# Altium footprint library PBL4_PCB_Lib.PcbLib: 25 footprints (part 1 of 2)
Each footprint in its own frame and in the unit in brackets; x right, y up, seen from the top. Pads: shape width x height; smd on the part's side, far side on the other; paste and mask are expansions set on the pad; w line width, h text height; cw(c..) or ccw(c..) is an arc to the next point about the centre after c.
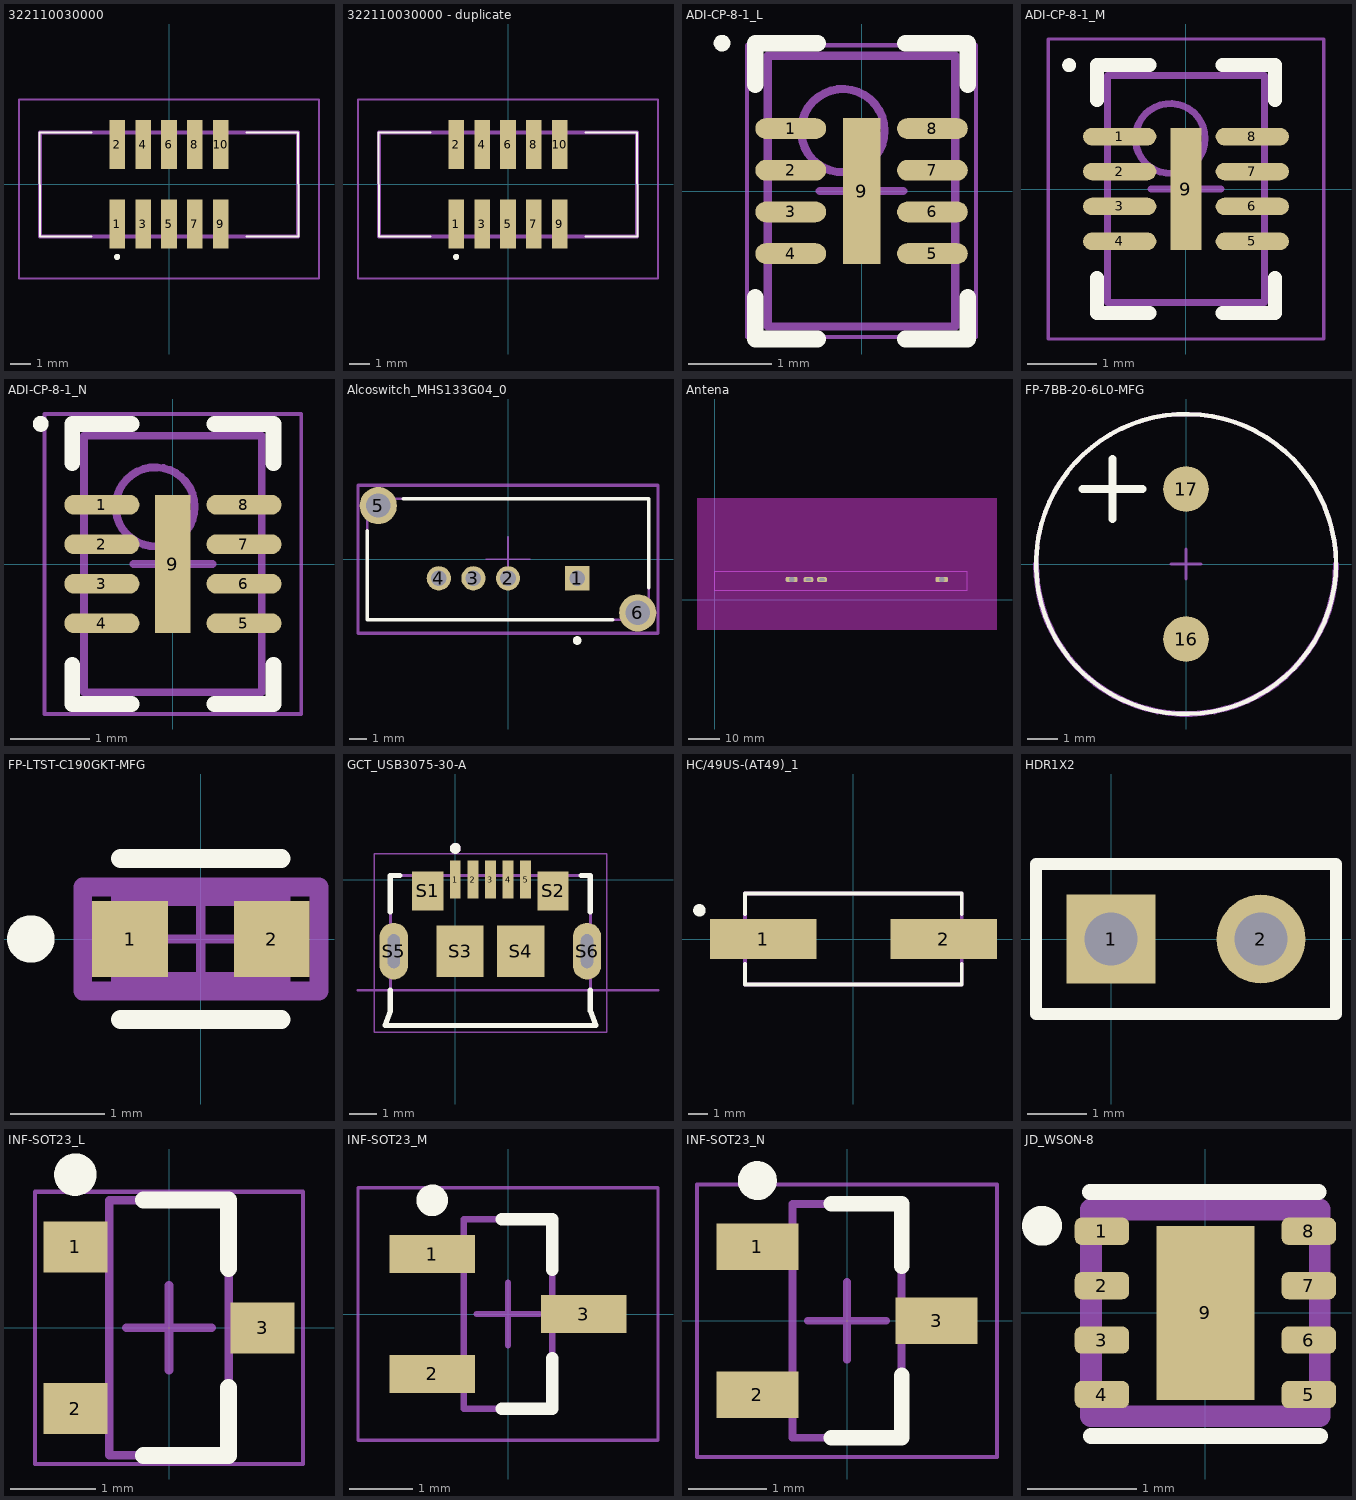
[diagram p0: the footprints below, top view; thin cyan lines are the x and y axes]

## 322110030000 [mm]
pads (10):
  rect 0.76x2.4 smd: 1(-2.54,-1.95) 2(-2.54,1.95) 3(-1.27,-1.95) 4(-1.27,1.95) 5(0,-1.95) 6(0,1.95) 7(1.27,-1.95) 8(1.27,1.95) 9(2.54,-1.95) 10(2.54,1.95)
Top Overlay:
  lines w0.1: -3.81,-2.55 -6.325,-2.55 -6.35,2.55 -3.81,2.55 ; 3.81,-2.55 6.35,-2.55 6.325,2.55 3.81,2.55
  lines w0.2: -2.54,-3.6 ccw(c-2.54,-3.55) -2.54,-3.5 ccw(c-2.54,-3.55) -2.54,-3.6
Mechanical 13:
  lines w0.2: -6.325,-2.55 -6.325,2.55 6.325,2.55 6.325,-2.55 -6.325,-2.55
Mechanical 15:
  lines w0.1: -7.35,-4.6 -7.35,4.15 ; -7.35,-4.6 7.35,-4.6 ; -7.35,-4.6 -7.35,4.15 ; -7.35,-4.6 7.35,-4.6 ; -7.35,4.15 7.35,4.15 ; -7.35,4.15 7.35,4.15 ; 7.35,-4.6 7.35,4.15 ; 7.35,-4.6 7.35,4.15
3D body "3221-10-0300-00.stp": height 5.9, standoff 0, extent -6.325,-3.074 6.325,3.074

## 322110030000 - duplicate [mm]
pads (10):
  rect 0.76x2.4 smd: 1(-2.54,-1.95) 2(-2.54,1.95) 3(-1.27,-1.95) 4(-1.27,1.95) 5(0,-1.95) 6(0,1.95) 7(1.27,-1.95) 8(1.27,1.95) 9(2.54,-1.95) 10(2.54,1.95)
Top Overlay:
  lines w0.1: -3.81,-2.55 -6.325,-2.55 -6.35,2.55 -3.81,2.55 ; 3.81,-2.55 6.35,-2.55 6.325,2.55 3.81,2.55
  lines w0.2: -2.54,-3.6 cw(c-2.54,-3.55) -2.54,-3.5 cw(c-2.54,-3.55) -2.54,-3.6
Mechanical 13:
  lines w0.2: -6.325,-2.55 6.325,-2.55 6.325,2.55 -6.325,2.55 -6.325,-2.55
Mechanical 15:
  lines w0.1: -7.35,-4.6 7.35,-4.6 ; -7.35,-4.6 -7.35,4.15 ; -7.35,-4.6 7.35,-4.6 ; -7.35,-4.6 -7.35,4.15 ; -7.35,4.15 7.35,4.15 ; -7.35,4.15 7.35,4.15 ; 7.35,-4.6 7.35,4.15 ; 7.35,-4.6 7.35,4.15
3D body "3221-10-0300-00.stp": height 5.9, standoff 0, extent -6.325,-3.074 6.325,3.074

## ADI-CP-8-1_L [mm] "SON, 8-Leads, Body 3x2mm, Pitch 0.5mm, Thermal Pad 1.75x0.45mm, IPC High Density"
height 1
pads (9):
  oval 0.85x0.25 smd: 1(-0.85,0.75) 2(-0.85,0.25) 3(-0.85,-0.25) 4(-0.85,-0.75) 5(0.85,-0.75) 6(0.85,-0.25) 7(0.85,0.25) 8(0.85,0.75)
  rect 0.45x1.75 smd: 9(0,0)
Top Overlay:
  circle w0.1: c-1.675,1.775 r0.05
  lines w0.2: -1.275,-1.275 -1.275,-1.775 -0.525,-1.775 ; -1.275,1.275 -1.275,1.775 -0.525,1.775 ; 0.525,-1.775 1.275,-1.775 1.275,-1.275 ; 0.525,1.775 1.275,1.775 1.275,1.275
Mechanical 13:
  circle w0.1: c-0.225,0.725 r0.5
  lines w0.1: -1.125,-1.625 -1.125,1.625 1.125,1.625 1.125,-1.625 -1.125,-1.625
Mechanical 15:
  lines w0.05: -1.375,-1.75 -1.375,1.75 1.375,1.75 1.375,-1.75 -1.375,-1.75
  lines w0.1: -0.5,0 0.5,0 ; 0,-0.5 0,0.5
3D body: height 1, standoff 0, extent -1.125,-1.625 1.125,1.625

## ADI-CP-8-1_M [mm] "SON, 8-Leads, Body 3x2mm, Pitch 0.5mm, Thermal Pad 1.75x0.45mm, IPC Low Density"
height 1
pads (9):
  oval 1.05x0.25 smd: 1(-0.95,0.75) 2(-0.95,0.25) 3(-0.95,-0.25) 4(-0.95,-0.75) 5(0.95,-0.75) 6(0.95,-0.25) 7(0.95,0.25) 8(0.95,0.75)
  rect 0.45x1.75 smd: 9(0,0)
Top Overlay:
  circle w0.1: c-1.675,1.775 r0.05
  lines w0.2: -1.275,-1.275 -1.275,-1.775 -0.525,-1.775 ; -1.275,1.275 -1.275,1.775 -0.525,1.775 ; 0.525,-1.775 1.275,-1.775 1.275,-1.275 ; 0.525,1.775 1.275,1.775 1.275,1.275
Mechanical 13:
  circle w0.1: c-0.225,0.725 r0.5
  lines w0.1: -1.125,-1.625 1.125,-1.625 1.125,1.625 -1.125,1.625 -1.125,-1.625
Mechanical 15:
  lines w0.05: -1.975,-2.15 1.975,-2.15 1.975,2.15 -1.975,2.15 -1.975,-2.15
  lines w0.1: -0.5,0 0.5,0 ; 0,-0.5 0,0.5
3D body: height 1, standoff 0, extent -1.125,-1.625 1.125,1.625

## ADI-CP-8-1_N [mm] "SON, 8-Leads, Body 3x2mm, Pitch 0.5mm, Thermal Pad 1.75x0.45mm, IPC Medium Density"
height 1
pads (9):
  oval 0.95x0.25 smd: 1(-0.9,0.75) 2(-0.9,0.25) 3(-0.9,-0.25) 4(-0.9,-0.75) 5(0.9,-0.75) 6(0.9,-0.25) 7(0.9,0.25) 8(0.9,0.75)
  rect 0.45x1.75 smd: 9(0,0)
Top Overlay:
  circle w0.1: c-1.675,1.775 r0.05
  lines w0.2: -1.275,-1.275 -1.275,-1.775 -0.525,-1.775 ; -1.275,1.275 -1.275,1.775 -0.525,1.775 ; 0.525,-1.775 1.275,-1.775 1.275,-1.275 ; 0.525,1.775 1.275,1.775 1.275,1.275
Mechanical 13:
  circle w0.1: c-0.225,0.725 r0.5
  lines w0.1: -1.125,-1.625 1.125,-1.625 1.125,1.625 -1.125,1.625 -1.125,-1.625
Mechanical 15:
  lines w0.05: -1.625,-1.9 1.625,-1.9 1.625,1.9 -1.625,1.9 -1.625,-1.9
  lines w0.1: -0.5,0 0.5,0 ; 0,-0.5 0,0.5
3D body: height 1, standoff 0, extent -1.125,-1.625 1.125,1.625

## Alcoswitch_MHS133G04_0 [mm]
pads (6):
  rect 1.4x1.4 hole 0.9 paste-1000 mask+0: 1(4,-1.1)
  round 1.4 hole 0.9 paste-1000 mask+0: 2(0,-1.1) 3(-2,-1.1) 4(-4,-1.1)
  round 2.15 hole 1.4 paste-1000 mask+0: 5(-7.5,3.1) 6(7.5,-3.1)
Top Overlay:
  circle w0.25: c4,-4.7 r0.125
  lines w0.2: -8.15,1.65 -8.15,-3.5 6.05,-3.5 ; -6.05,3.5 8.15,3.5 8.15,-1.65
Mechanical 10:
  lines w0.2: -8.675,-4.275 -8.675,4.275 8.675,4.275 8.675,-4.275 -8.675,-4.275
  text ".Designator" at 0,0 h1
Mechanical 12:
  lines w0.15: -8.15,-3.5 -8.15,3.5 8.15,3.5 8.15,-3.5 -8.15,-3.5
Mechanical 15:
  lines w0.1: -1.282,0 1.282,0 ; 0,-1.282 0,1.282
  lines w0.2: -8.675,-4.275 -8.675,4.275 8.675,4.275 8.675,-4.275 -8.675,-4.275
3D body "Switch_Alcoswitch_MHS133G04_eec.STEP": height 0.25, standoff 0, extent -8.675,-4.275 8.675,4.275

## Antena [mm] "Antena"
pads (4):
  rrect50% 3.8x1.524 hole 1.7 slot 1.52 at 90 deg: 1(24.35,6.353)
  rrect50% 3.05x1.524 hole 1.7 slot 0.76 at 90 deg: 2(29.65,6.3) 3(33.95,6.3)
  rrect50% 4.06x1.524 hole 1.7 slot 1.52 at 90 deg: 4(71.87,6.35)
Keep-Out Layer:
  rectangle: -5.64,-9.59 89.36,32.08
Mechanical 1:
  lines w0.254: 0,3 0,9 80,9 80,3 0,3
3D body: height 20, standoff 0, extent 19.34,5.54 74.34,7.16

## FP-7BB-20-6L0-MFG [mil]
pads (2):
  round 60 smd: 16(0,-98.43) 17(0,98.43)
Top Overlay:
  circle w5.91: c0,0 r196.85
  lines w10: -135.83,98.43 -57.09,98.43 -96.46,98.43 ; -96.46,137.8 -96.46,98.43 ; -96.46,98.43 -96.46,59.06 -96.46,98.43
Mechanical 5:
  text ".Designator" at 0,7.39 h39.37
Mechanical 13:
  circle w5.91: c0,0 r196.85
Mechanical 15:
  lines w7.87: -196.85,0 ccw(c0,0) 196.85,0
Mechanical 16:
  lines w3.94: -19.68,0 19.68,0 ; 0,-19.68 0,19.68

## FP-LTST-C190GKT-MFG [mm]
pads (2):
  rect 0.8x0.8 smd paste+0 mask+0: 1(-0.75,0) 2(0.75,0)
Top Overlay:
  circle w0.25: c-1.8,0 r0.125
  lines w0.2: -0.85,-0.85 0.85,-0.85 ; -0.85,0.85 0.85,0.85
Mechanical 5:
  lines w0.2: -1.25,-0.55 1.25,-0.55 1.25,0.55 -1.25,0.55 -1.25,-0.55
  text ".Designator" at 0,-0.001 h1
Mechanical 13:
  lines w0.2: -0.85,-0.45 0.85,-0.45 0.85,0.45 -0.85,0.45 -0.85,-0.45
Mechanical 15:
  lines w0.2: -1.25,-0.55 1.25,-0.55 1.25,0.55 -1.25,0.55 -1.25,-0.55
Mechanical 16:
  lines w0.1: -0.5,0 0.5,0 ; 0,-0.5 0,0.5
3D body "Diode_Lite-On_LTST-C190GKT_eec.STEP": height 0.25, standoff 0, extent -1.25,-0.55 1.25,0.55

## GCT_USB3075-30-A [mm]
pads (11):
  rect 0.4x1.4 smd: 1(0,0) 2(0.65,0) 3(1.3,0) 4(1.95,0) 5(2.6,0)
  rect 1.15x1.45 smd: S1(-1.02,-0.42) S2(3.62,-0.42)
  rect 1.75x1.9 smd: S3(0.175,-2.65) S4(2.425,-2.65)
  oval 1.05x2.1 hole 0.45 slot 1.25 at 90 deg: S5(-2.275,-2.65) S6(4.875,-2.65)
Top Overlay:
  circle w0.2: c0,1.15 r0.1
  lines w0.2: -2.4,-4.1 -2.4,-4.86 -2.6,-5.4 5.2,-5.4 5,-4.86 5,-4.1 ; -2.4,-1.2 -2.4,0.15 -2.05,0.15 ; 4.65,0.15 5,0.15 5,-1.2
Mechanical 13:
  circle w0.2: c0,1.15 r0.1
  lines w0.1: -3.6,-4.1 7.5,-4.1 ; -2.6,-5.4 -2.4,-4.86 -2.4,0.15 5,0.15 5,-4.86 5.2,-5.4 -2.6,-5.4
  text "PCB EDGE" at 5.716,-4.055 h0.41
Mechanical 15:
  lines w0.05: -3,-5.65 5.6,-5.65 5.6,0.95 -3,0.95 -3,-5.65

## HC/49US-(AT49)_1 [mm]
pads (2):
  rect 5.6x2.1 smd: 1(-4.75,0) 2(4.75,0)
Top Overlay:
  circle w0.4: c-8.105,1.51 r0.126
  lines w0.2: -5.7,-1.3 -5.7,-2.4 5.7,-2.4 5.7,-1.3 ; -5.7,1.3 -5.7,2.4 5.7,2.4 5.7,1.3
Mechanical 13:
  lines w0.2: -5.7,-2.4 5.7,-2.4 5.7,2.4 -5.7,2.4 -5.7,-2.4
3D body "ABLS-12.000MHZ-B4-T.stp": height 1.5, standoff -2.7, extent -6.35,-2.35 6.35,2.35

## HDR1X2 [mm] "Connector; Header; 2 Position"
pads (2):
  rect 1.5x1.5 hole 0.9: 1(0,0)
  round 1.5 hole 0.9: 2(2.54,0)
Top Overlay:
  lines w0.2: -1.27,-1.27 -1.27,1.27 3.81,1.27 3.81,-1.27 -1.27,-1.27

## INF-SOT23_L [mm] "SOT23, 3-Leads, Body 2.9x1.3 mm, Pitch 0.95 mm, IPC High Density"
height 1.1
pads (3):
  rect 0.75x0.6 smd: 1(-1.1,0.95) 2(-1.1,-0.95) 3(1.1,0)
Top Overlay:
  circle w0.25: c-1.1,1.8 r0.125
  lines w0.2: -0.3,-1.5 0.7,-1.5 0.7,-0.7 ; -0.3,1.5 0.7,1.5 0.7,0.7
Mechanical 13:
  lines w0.1: -0.7,-1.5 -0.7,1.5 0.7,1.5 0.7,-1.5 -0.7,-1.5
Mechanical 15:
  lines w0.05: -1.575,-1.6 -1.575,1.6 1.575,1.6 1.575,-1.6 -1.575,-1.6
  lines w0.1: -0.5,0 0.5,0 ; 0,-0.5 0,0.5
3D body: height 1.1, standoff 0.1, extent -0.7,-1.5 0.7,1.5

## INF-SOT23_M [mm] "SOT23, 3-Leads, Body 2.9x1.3 mm, Pitch 0.95 mm, IPC Low Density"
height 1.1
pads (3):
  rect 1.35x0.6 smd: 1(-1.2,0.95) 2(-1.2,-0.95) 3(1.2,0)
Top Overlay:
  circle w0.25: c-1.2,1.8 r0.125
  lines w0.2: -0.1,-1.5 0.7,-1.5 0.7,-0.7 ; -0.1,1.5 0.7,1.5 0.7,0.7
Mechanical 13:
  lines w0.1: -0.7,-1.5 -0.7,1.5 0.7,1.5 0.7,-1.5 -0.7,-1.5
Mechanical 15:
  lines w0.05: -2.375,-2 -2.375,2 2.375,2 2.375,-2 -2.375,-2
  lines w0.1: -0.5,0 0.5,0 ; 0,-0.5 0,0.5
3D body: height 1.1, standoff 0.1, extent -0.7,-1.5 0.7,1.5

## INF-SOT23_N [mm] "SOT23, 3-Leads, Body 2.9x1.3 mm, Pitch 0.95 mm, IPC Medium Density"
height 1.1
pads (3):
  rect 1.05x0.6 smd: 1(-1.15,0.95) 2(-1.15,-0.95) 3(1.15,0)
Top Overlay:
  circle w0.25: c-1.15,1.8 r0.125
  lines w0.2: -0.2,-1.5 0.7,-1.5 0.7,-0.7 ; -0.2,1.5 0.7,1.5 0.7,0.7
Mechanical 13:
  lines w0.1: -0.7,-1.5 -0.7,1.5 0.7,1.5 0.7,-1.5 -0.7,-1.5
Mechanical 15:
  lines w0.05: -1.925,-1.75 -1.925,1.75 1.925,1.75 1.925,-1.75 -1.925,-1.75
  lines w0.1: -0.5,0 0.5,0 ; 0,-0.5 0,0.5
3D body: height 1.1, standoff 0.1, extent -0.7,-1.5 0.7,1.5

## JD_WSON-8 [mm] "JD_WSON-8"
height 0.8
pads (9):
  rrect50% 0.5x0.25 smd paste+0: 1(-0.95,0.75) 2(-0.95,0.25) 3(-0.95,-0.25) 4(-0.95,-0.75) 5(0.95,-0.75) 6(0.95,-0.25) 7(0.95,0.25) 8(0.95,0.75)
  rect 0.9x1.6 smd: 9(0,0)
Top Overlay:
  circle w0.254: c-1.5,0.8 r0.056
  lines w0.15: -1.06,1.11 1.04,1.11 ; -1.05,-1.13 1.05,-1.13
Top Paste:
  region: -0.45,0.1 -0.45,0.8 0.45,0.8 0.45,0.1
  region: -0.45,-0.8 -0.45,-0.1 0.45,-0.1 0.45,-0.8
Mechanical 13:
  lines w0.2: -1.05,-0.95 1.05,-0.95 1.05,0.95 -1.05,0.95 -1.05,-0.95